# Altium footprint library SparkFun-Connectors.PCBLIB: 379 footprints (part 19 of 24)
Each footprint in its own frame and in the unit in brackets; x right, y up, seen from the top. Pads: shape width x height; smd on the part's side, far side on the other; paste and mask are expansions set on the pad; w line width, h text height; cw(c..) or ccw(c..) is an arc to the next point about the centre after c.
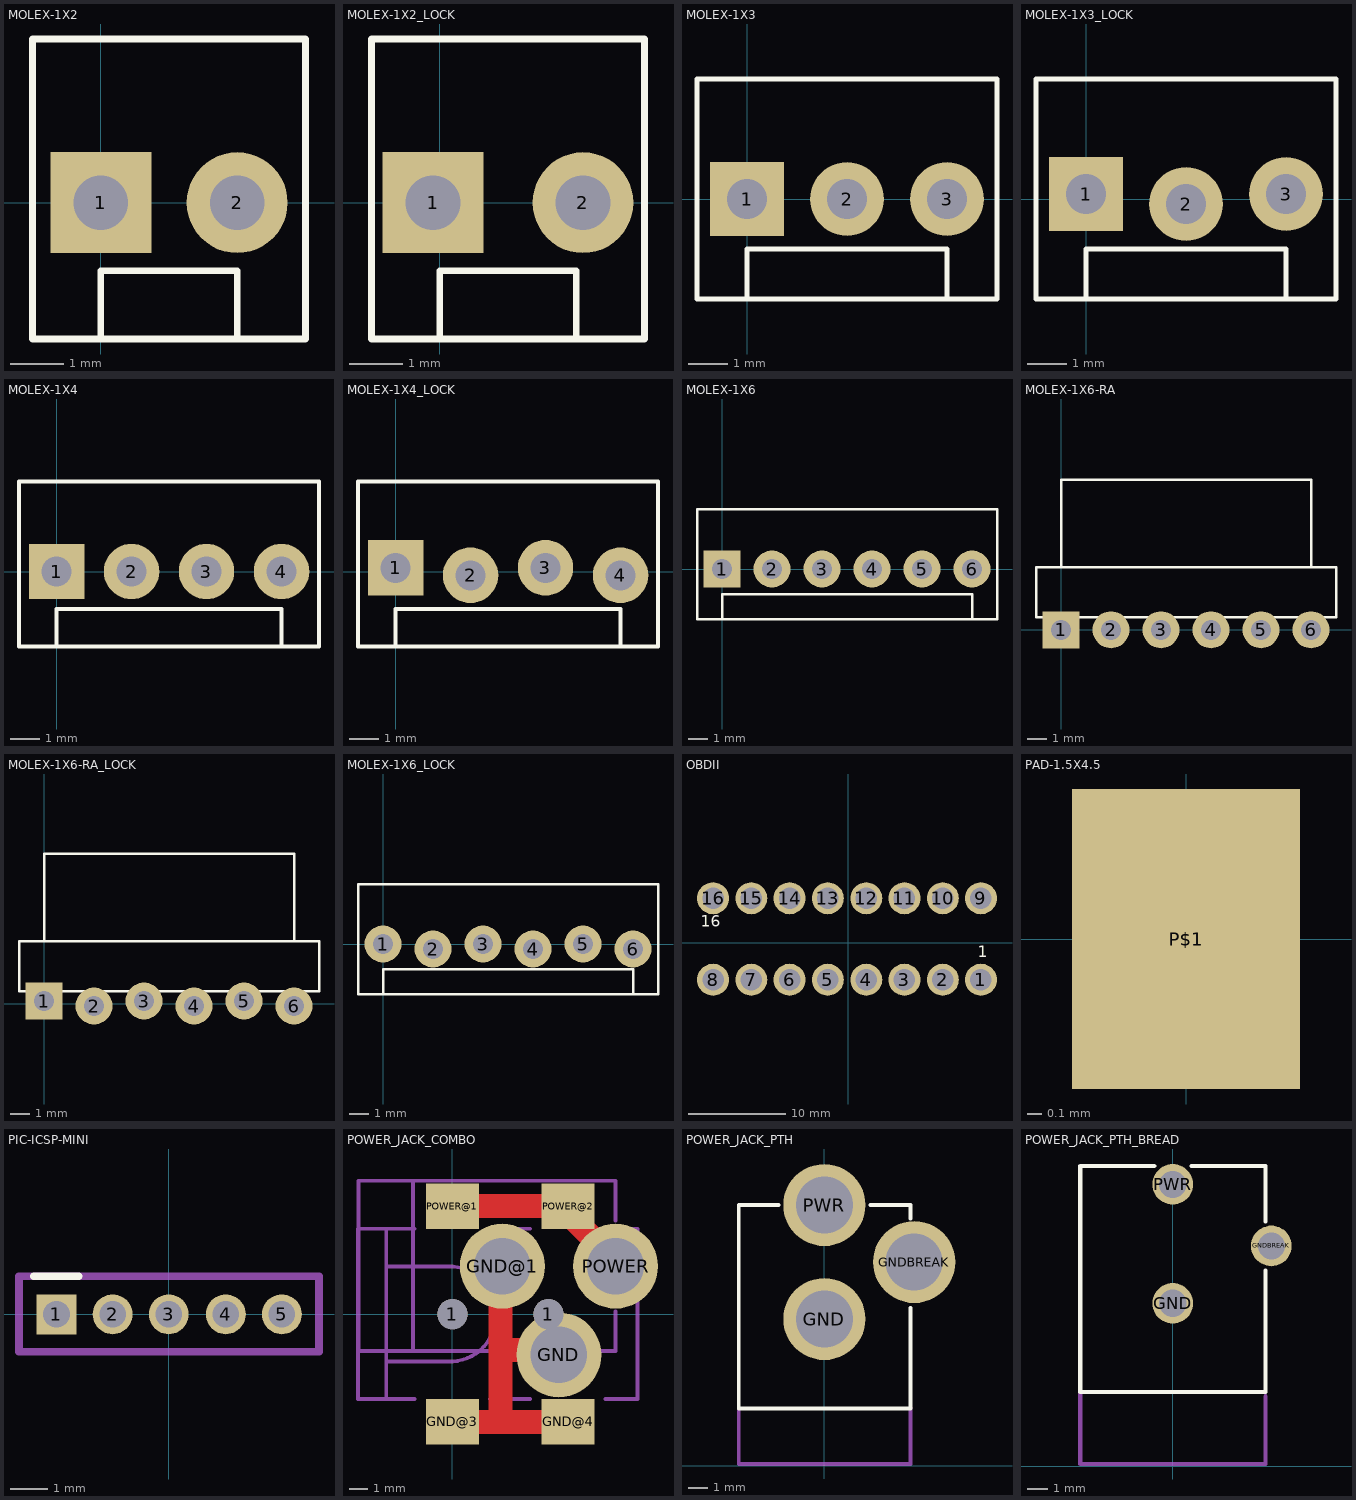
[diagram p18: the footprints below, top view; thin cyan lines are the x and y axes]

## MOLEX-1X2 [mil]
pads (2):
  rect 74x74 hole 40: 1(0,0)
  round 74 hole 40: 2(100,0)
Top Overlay:
  lines w5: 0,-100 100,-100 ; 0,-100 -50,-100 -50,120 150,120 150,-100 100,-100 ; 0,-100 0,-50 100,-50 100,-100

## MOLEX-1X2_LOCK [mil]
pads (2):
  rect 74x74 hole 40: 1(-5,0)
  round 74 hole 40: 2(105,0)
Top Overlay:
  lines w5: 0,-100 100,-100 ; 0,-100 -50,-100 -50,120 150,120 150,-100 100,-100 ; 0,-100 0,-50 100,-50 100,-100
Mechanical 16:
  rectangle: -11.5,-11.5 12,12
  rectangle: 89,-11.5 112,12

## MOLEX-1X3 [mil]
pads (3):
  rect 74x74 hole 40: 1(0,0)
  round 74 hole 40: 2(100,0) 3(200,0)
Top Overlay:
  lines w5: 0,-100 200,-100 ; 0,-100 -50,-100 -50,120 250,120 250,-100 200,-100 ; 0,-100 0,-50 200,-50 200,-100

## MOLEX-1X3_LOCK [mil]
pads (3):
  rect 74x74 hole 40: 1(0,5)
  round 74 hole 40: 2(100,-5) 3(200,5)
Top Overlay:
  lines w5: 0,-100 200,-100 ; 0,-100 -50,-100 -50,120 250,120 250,-100 200,-100 ; 0,-100 0,-50 200,-50 200,-100
Mechanical 16:
  rectangle: -11.5,-11.5 12,12
  rectangle: 89,-11.5 112,12
  rectangle: 189,-11.5 212,12

## MOLEX-1X4 [mil]
pads (4):
  rect 74x74 hole 40: 1(0,0)
  round 74 hole 40: 2(100,0) 3(200,0) 4(300,0)
Top Overlay:
  lines w5: 0,-100 300,-100 ; 0,-100 -50,-100 -50,120 350,120 350,-100 300,-100 ; 0,-100 0,-50 300,-50 300,-100

## MOLEX-1X4_LOCK [mil]
pads (4):
  rect 74x74 hole 40: 1(0,5)
  round 74 hole 40: 2(100,-5) 3(200,5) 4(300,-5)
Top Overlay:
  lines w5: 0,-100 300,-100 ; 0,-100 -50,-100 -50,120 350,120 350,-100 300,-100 ; 0,-100 0,-50 300,-50 300,-100

## MOLEX-1X6 [mil]
pads (6):
  rect 74x74 hole 40: 1(0,0)
  round 74 hole 40: 2(100,0) 3(200,0) 4(300,0) 5(400,0) 6(500,0)
Top Overlay:
  lines w5: 0,-100 500,-100 ; 0,-100 -50,-100 -50,120 550,120 550,-100 500,-100 ; 0,-100 0,-50 500,-50 500,-100

## MOLEX-1X6-RA [mil]
pads (6):
  rect 74x74 hole 40: 1(0,0)
  round 74 hole 40: 2(100,0) 3(200,0) 4(300,0) 5(400,0) 6(500,0)
Top Overlay:
  lines w5: 0,125 500,125 ; 0,125 -50,125 -50,25 550,25 550,125 500,125 ; 0,125 0,300 500,300 500,125
Mechanical 2:
  text ">NAME" at -35,-110 h77.5
  text ">VALUE" at 315,-110 h77.5

## MOLEX-1X6-RA_LOCK [mil]
pads (6):
  rect 74x74 hole 40: 1(0,5)
  round 74 hole 40: 2(100,-5) 3(200,5) 4(300,-5) 5(400,5) 6(500,-5)
Top Overlay:
  lines w5: 0,125 500,125 ; 0,125 -50,125 -50,25 550,25 550,125 500,125 ; 0,125 0,300 500,300 500,125
Mechanical 2:
  text ">NAME" at -35,-110 h77.5
  text ">VALUE" at 315,-110 h77.5

## MOLEX-1X6_LOCK [mil]
pads (6):
  round 74 hole 40: 1(0,0) 2(100,-10) 3(200,0) 4(300,-10) 5(400,0) 6(500,-10)
Top Overlay:
  lines w5: 0,-100 500,-100 ; 0,-100 -50,-100 -50,120 550,120 550,-100 500,-100 ; 0,-100 0,-50 500,-50 500,-100
Mechanical 2:
  text ">NAME" at -50,130 h42.5
Mechanical 4:
  text ">VALUE" at -50,-160 h42.5
Mechanical 16:
  rectangle: -11.5,-16.5 12,7
  rectangle: 89,-16.5 112,7
  rectangle: 189,-16.5 212,7
  rectangle: 289,-16.5 312,7
  rectangle: 389,-16.5 412,7
  rectangle: 489,-16.5 512,7

## OBDII [mil]
pads (16):
  round 130.5 hole 87: 1(539,-150) 2(384,-150) 3(228,-150) 4(73,-150) 5(-83.46,-150) 6(-238.98,-150) 7(-394.49,-150) 8(-550,-150) 9(539,181) 10(384,181) 11(228,181) 12(73,181) 13(-83.46,181) 14(-238.98,181) 15(-394.49,181) 16(-550,181)
Top Overlay:
  text "1" at 525,-75 h77.5
  text "16" at -600,50 h77.5

## PAD-1.5X4.5 [mil]
pads (1):
  rect 60x79 smd: P$1(0,0)

## PIC-ICSP-MINI [mil]
pads (5):
  rect 42x42 hole 28: 1(-118.11,0)
  round 42 hole 28: 2(-59.06,0) 3(0,0) 4(60,0) 5(119,0)
Top Overlay:
  lines w8: -141.73,40 -94.49,40
Mechanical 16:
  lines w8: -157.48,-39.37 -157.48,40 158,40 158,-39.37 -157.48,-39.37

## POWER_JACK_COMBO [mil]
pads (9):
  round 63 hole 63: 1(0,0) 1(200,0)
  round 177 hole 118: GND(222,-85.04) GND@1(104,100) POWER(340,100)
  rect 111x95 smd: GND@3(0,-224.41) GND@4(241,-224.41) POWER@1(0,225) POWER@2(241,225)
Top Layer:
  lines w50: 0,-225 100,-225 ; 0,225 250,225 250,200 350,100 ; 100,100 100,-75 ; 225,-75 100,-75 ; 250,-225 100,-225 ; 100,-225 100,-75
Mechanical 2:
  text ">NAME" at -200,300 h108.5
Mechanical 16:
  lines w8: -78.74,-177.17 -137.8,-177.17 ; -78.74,178 -137.8,178 ; 79,-177.17 162,-177.17 ; 79,178 162,178 ; 127,-77.17 -81.89,-77.17 ; 312,-77.17 340,-77.17 340,6 ; 319,-177.17 386,-177.17 386,178 323,178 ; 340,195 340,278 -81.89,278 ; -137.8,-177.17 -196.85,-177.17 -196.85,178 -137.8,178 ; -137.8,-177.17 -137.8,-98.43 ; -137.8,-98.43 -137.8,99 ; -137.8,-98.43 0,-98.43 ccw(c-4.21,-4.21) 90,0 ccw(c-4.5,4.5) 0,99 -137.8,99 ; -137.8,99 -137.8,178 ; -81.89,-77.17 -196.06,-77.17 -196.06,278 -81.89,278 ; -81.89,-77.17 -81.89,278

## POWER_JACK_PTH [mil]
pads (3):
  round 170 hole 118: GND(0,304) GNDBREAK(186,422) PWR(0,540)
Top Overlay:
  lines w8: -94.49,540 -177.17,540 -177.17,119 178,119 178,327 ; 95,540 178,540 178,512
Mechanical 2:
  text ">NAME" at -150,200 h24.8
Mechanical 4:
  text ">VALUE" at -150,150 h24.8
Mechanical 16:
  lines w8: -177.17,119 -177.17,4 178,4 178,119

## POWER_JACK_PTH_BREAD [mil]
pads (3):
  round 78 hole 52: GND(0,312) GNDBREAK(189,422) PWR(0,540)
Top Overlay:
  lines w8: -35.43,575 -177.17,575 -177.17,142 178,142 178,375 ; 36,575 178,575 178,469
Mechanical 2:
  text ">NAME" at -150,200 h24.8
Mechanical 4:
  text ">VALUE" at -150,160 h24.8
Mechanical 16:
  lines w8: -177.17,142 -177.17,4 178,4 178,134